# Altium footprint library 844-XXXXX_FAB_projectname.PcbLib: 1 footprints
Each footprint in its own frame and in the unit in brackets; x right, y up, seen from the top. Pads: shape width x height; smd on the part's side, far side on the other; paste and mask are expansions set on the pad; w line width, h text height; cw(c..) or ccw(c..) is an arc to the next point about the centre after c.

## Example Component [mm]
height 1
Top Designator:
  text ".Designator" at -2.263,-0.239 h1